# Altium footprint library Resistors THD.PcbLib: 107 footprints (part 6 of 7)
Each footprint in its own frame and in the unit in brackets; x right, y up, seen from the top. Pads: shape width x height; smd on the part's side, far side on the other; paste and mask are expansions set on the pad; w line width, h text height; cw(c..) or ccw(c..) is an arc to the next point about the centre after c.
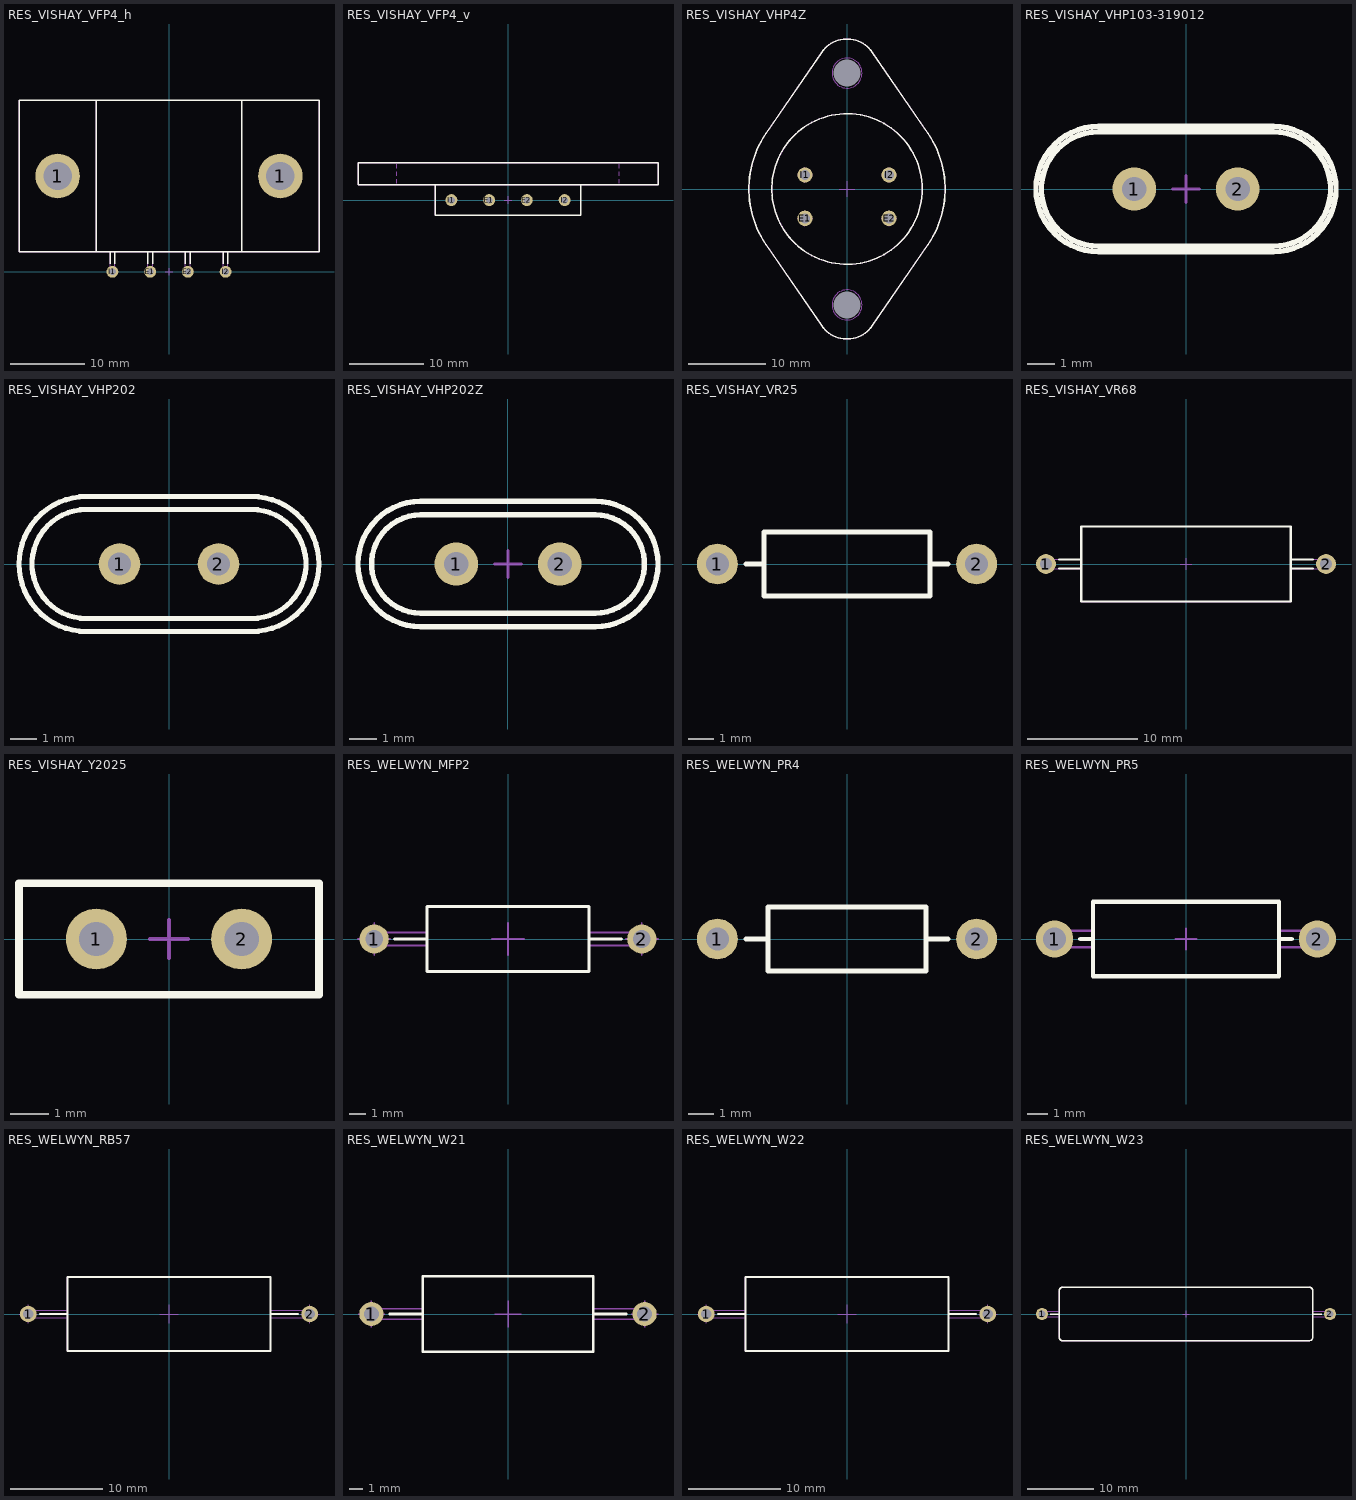
[diagram p5: the footprints below, top view; thin cyan lines are the x and y axes]

## RES_VISHAY_VFP4_h [mm] "4 Leads VFP4 VISHAY Case - Horizontal Mounting"
height 7.11
pads (6):
  round 6 hole 3.8: 1(-15,12.9) 1(15,12.9)
  round 1.6 hole 0.9: E1(-2.54,0) E2(2.54,0) I1(-7.62,0) I2(7.62,0)
Top Overlay:
  lines w0.2: -9.79,2.7 -9.79,23.1 ; -7.945,1.051 -7.945,2.7 ; -7.295,1.051 -7.295,2.7 ; -2.865,1.051 -2.865,2.7 ; -2.215,1.051 -2.215,2.7 ; 2.215,1.051 2.215,2.7 ; 2.865,1.051 2.865,2.7 ; 7.295,1.051 7.295,2.7 ; 7.945,1.051 7.945,2.7 ; 9.79,2.7 9.79,23.1 ; -20.21,2.7 -20.21,23.1 20.21,23.1 20.21,2.7 -20.21,2.7
Mechanical 8:
  lines w0.1: -15.5,12.9 -15,12.9 ; -15,12.4 -15,12.9 ; -15,13.4 -15,12.9 ; -14.5,12.9 -15,12.9 ; -8.12,0 -7.62,0 ; -7.62,-0.5 -7.62,0 ; -7.62,0.5 -7.62,0 ; -7.12,0 -7.62,0 ; -3.04,0 -2.54,0 ; -2.54,-0.5 -2.54,0 ; -2.54,0.5 -2.54,0 ; -2.04,0 -2.54,0 ; -0.5,0 0,0 ; 0,-0.5 0,0 ; 0,0.5 0,0 ; 0.5,0 0,0 ; 2.04,0 2.54,0 ; 2.54,-0.5 2.54,0 ; 2.54,0.5 2.54,0 ; 3.04,0 2.54,0 ; 7.12,0 7.62,0 ; 7.62,-0.5 7.62,0 ; 7.62,0.5 7.62,0 ; 8.12,0 7.62,0 ; 14.5,12.9 15,12.9 ; 15,12.4 15,12.9 ; 15,13.4 15,12.9 ; 15.5,12.9 15,12.9
Mechanical 14:
  lines w0.1: -9.79,2.7 -9.79,23.1 ; -7.945,2.7 -7.945,0 ccw(c-7.62,0) -7.295,0 -7.295,2.7 ; -2.865,2.7 -2.865,0 ccw(c-2.54,0) -2.215,0 -2.215,2.7 ; 2.215,2.7 2.215,0 ccw(c2.54,0) 2.865,0 2.865,2.7 ; 7.295,2.7 7.295,0 ccw(c7.62,0) 7.945,0 7.945,2.7 ; 9.79,2.7 9.79,23.1 ; -20.21,2.7 -20.21,23.1 20.21,23.1 20.21,2.7 -20.21,2.7
3D body "RES_VISHAY_VFP-4_h.stp": height 7.11, standoff -3.6, extent -20.21,-0.325 20.21,23.1

## RES_VISHAY_VFP4_v [mm] "4 Leads VFP4 VISHAY Case - Vertical Mounting"
height 25.4
pads (4):
  round 1.6 hole 0.9: E1(-2.54,0) E2(2.54,0) I1(-7.62,0) I2(7.62,0)
Top Overlay:
  lines w0.2: -9.79,2.055 -9.79,-2.055 9.79,-2.055 9.79,2.055 ; -20.21,2.055 -20.21,5.055 20.21,5.055 20.21,2.055 -20.21,2.055
Mechanical 8:
  lines w0.1: -15,2.305 -15,2.805 ; -15,3.305 -15,3.555 -15,3.805 ; -15,4.305 -15,4.805 ; -8.12,0 -7.62,0 ; -7.62,-0.5 -7.62,0 ; -7.62,0.5 -7.62,0 ; -7.12,0 -7.62,0 ; -3.04,0 -2.54,0 ; -2.54,-0.5 -2.54,0 ; -2.54,0.5 -2.54,0 ; -2.04,0 -2.54,0 ; -0.5,0 0,0 ; 0,-0.5 0,0 ; 0,0.5 0,0 ; 0.5,0 0,0 ; 2.04,0 2.54,0 ; 2.54,-0.5 2.54,0 ; 2.54,0.5 2.54,0 ; 3.04,0 2.54,0 ; 7.12,0 7.62,0 ; 7.62,-0.5 7.62,0 ; 7.62,0.5 7.62,0 ; 8.12,0 7.62,0 ; 15,2.305 15,2.805 ; 15,3.305 15,3.555 15,3.805 ; 15,4.305 15,4.805
Mechanical 14:
  lines w0.1: -9.79,2.055 -9.79,-2.055 9.79,-2.055 9.79,2.055 ; -20.21,2.055 -20.21,5.055 20.21,5.055 20.21,2.055 -20.21,2.055
3D body "RES_VISHAY_VFP-4_v.stp": height 25.4, standoff -3, extent -20.21,-2.055 20.21,5.055

## RES_VISHAY_VHP4Z [mm] "TO-3, 4 Leads VISHAY Case"
height 8.64
pads (6):
  round 0.5 hole 3.5 unplated mask+1.5: 1(0,-15.065) 1(0,15.065)
  round 2 hole 1.3: E1(-5.46,-3.815) E2(5.46,-3.815) I1(-5.46,1.825) I2(5.46,1.825)
Top Overlay:
  circle w0.2: c0,0 r9.779
  lines w0.2: -10.526,-7.221 cw(c0,0) -10.526,7.221 -3.299,17.758 cw(c0,15.495) 3.299,17.758 10.526,7.221 cw(c0,0) 10.526,-7.221 3.299,-17.758 cw(c0,-15.495) -3.299,-17.758 -10.526,-7.221
Mechanical 8:
  lines w0.1: -6.46,-3.815 -5.46,-3.815 ; -6.46,1.825 -5.46,1.825 ; -5.46,-4.815 -5.46,-3.815 ; -5.46,-2.815 -5.46,-3.815 ; -5.46,0.825 -5.46,1.825 ; -5.46,2.825 -5.46,1.825 ; -4.46,-3.815 -5.46,-3.815 ; -4.46,1.825 -5.46,1.825 ; -1,-15.065 0,-15.065 ; -1,0 0,0 ; -1,15.065 0,15.065 ; 0,-16.065 0,-15.065 ; 0,-14.065 0,-15.065 ; 0,-1 0,0 ; 0,1 0,0 ; 0,14.065 0,15.065 ; 0,16.065 0,15.065 ; 1,-15.065 0,-15.065 ; 1,0 0,0 ; 1,15.065 0,15.065 ; 4.46,-3.815 5.46,-3.815 ; 4.46,1.825 5.46,1.825 ; 5.46,-4.815 5.46,-3.815 ; 5.46,-2.815 5.46,-3.815 ; 5.46,0.825 5.46,1.825 ; 5.46,2.825 5.46,1.825 ; 6.46,-3.815 5.46,-3.815 ; 6.46,1.825 5.46,1.825
Mechanical 14:
  circle w0.1: c-5.46,1.825 r0.5
  circle w0.1: c-5.46,-3.815 r0.5
  circle w0.1: c5.46,-3.815 r0.5
  circle w0.1: c5.46,1.825 r0.5
  circle w0.1: c0,-15.065 r1.95
  circle w0.1: c0,15.065 r1.95
  circle w0.1: c0,0 r9.779
  lines w0.1: -10.526,-7.221 cw(c0,0) -10.526,7.221 -3.299,17.758 cw(c0,15.495) 3.299,17.758 10.526,7.221 cw(c0,0) 10.526,-7.221 3.299,-17.758 cw(c0,-15.495) -3.299,-17.758 -10.526,-7.221
3D body "RES_VISHAY_VHP4Z.stp": height 8.64, standoff -11.43, extent -12.765,-19.495 12.765,19.495

## RES_VISHAY_VHP103-319012 [mm] "Resistor, Radial, Pad spacing 5.08mm - Body 4.62mm X 11.05mm X 10.92mm H"
height 13.97
pads (2):
  round 1.6 hole 0.9: 1(-1.905,0) 2(1.905,0)
Top Overlay:
  lines w0.2: -3.215,-2.31 cw(c-3.215,0) -3.215,2.31 3.215,2.31 cw(c3.215,0) 3.215,-2.31 -3.215,-2.31 ; -3.215,-2.11 cw(c-3.215,0) -3.215,2.11 3.215,2.11 cw(c3.215,0) 3.215,-2.11 -3.215,-2.11
Mechanical 8:
  lines w0.1: -2.395,0 -1.895,0 ; -1.895,-0.5 -1.895,0 ; -1.895,0.5 -1.895,0 ; -1.395,0 -1.895,0 ; -0.5,0 0,0 ; 0,-0.5 0,0 ; 0,0.5 0,0 ; 0.5,0 0,0 ; 1.395,0 1.895,0 ; 1.895,-0.5 1.895,0 ; 1.895,0.5 1.895,0 ; 2.395,0 1.895,0
Mechanical 14:
  lines w0.1: -3.215,-2.31 cw(c-3.215,0) -3.215,2.31 3.215,2.31 cw(c3.215,0) 3.215,-2.31 -3.215,-2.31 ; -3.215,-2.11 cw(c-3.215,0) -3.215,2.11 3.215,2.11 cw(c3.215,0) 3.215,-2.11 -3.215,-2.11
3D body "RES_VISHAY_VHP103-319012.stp": height 13.97, standoff -3.16, extent -5.525,-2.31 5.525,2.31

## RES_VISHAY_VHP202 [mm] "Resistor, Radial, Pad spacing 3.81mm - Body 5.21mm X 11.56mm X 13.84mm H"
height 11.43
pads (2):
  round 1.6 hole 0.9: 1(-1.905,0) 2(1.905,0)
Top Overlay:
  lines w0.2: -3.175,-2.6 cw(c-3.175,0) -3.175,2.6 3.175,2.6 cw(c3.175,0) 3.175,-2.6 -3.175,-2.6 ; -3.175,-2.1 cw(c-3.175,0) -3.175,2.1 3.175,2.1 cw(c3.175,0) 3.175,-2.1 -3.175,-2.1
Mechanical 14:
  circle w0.1: c-1.905,0 r0.6
  circle w0.1: c1.905,0 r0.6
  lines w0.1: -3.175,-2.6 cw(c-3.175,0) -3.175,2.6 3.175,2.6 cw(c3.175,0) 3.175,-2.6 -3.175,-2.6 ; -3.175,-2.1 cw(c-3.175,0) -3.175,2.1 3.175,2.1 cw(c3.175,0) 3.175,-2.1 -3.175,-2.1
3D body "RES_VISHAY_VHP202.stp": height 13.84, standoff -3.6, extent -5.78,-2.6 5.77,2.6

## RES_VISHAY_VHP202Z [mm] "Resistor, Radial, Pad spacing 3.81mm - Body 4.11mm X 10.54mm X 13.3mm H"
height 13.84
pads (2):
  round 1.6 hole 0.9: 1(-1.905,0) 2(1.905,0)
Top Overlay:
  lines w0.2: -3.215,-2.31 cw(c-3.215,0) -3.215,2.31 3.215,2.31 cw(c3.215,0) 3.215,-2.31 -3.215,-2.31 ; -3.215,-1.81 cw(c-3.215,0) -3.215,1.81 3.215,1.81 cw(c3.215,0) 3.215,-1.81 -3.215,-1.81
Mechanical 8:
  lines w0.1: -2.405,0 -1.905,0 ; -1.905,-0.5 -1.905,0 ; -1.905,0.5 -1.905,0 ; -1.405,0 -1.905,0 ; -0.5,0 0,0 ; 0,-0.5 0,0 ; 0,0.5 0,0 ; 0.5,0 0,0 ; 1.405,0 1.905,0 ; 1.905,-0.5 1.905,0 ; 1.905,0.5 1.905,0 ; 2.405,0 1.905,0
Mechanical 14:
  lines w0.1: -3.215,-2.31 cw(c-3.215,0) -3.215,2.31 3.215,2.31 cw(c3.215,0) 3.215,-2.31 -3.215,-2.31 ; -3.215,-1.81 cw(c-3.215,0) -3.215,1.81 3.215,1.81 cw(c3.215,0) 3.215,-1.81 -3.215,-1.81
3D body "RES_VISHAY_VHP202Z.stp": height 13.84, standoff -3.6, extent -5.525,-2.31 5.525,2.31

## RES_VISHAY_VR25 [mm] "Resistor, Axial, Pad spacing 10.16 mm - Body Lengh 6.5mm X Body Diameter 2.5mm"
height 2.5
pads (2):
  round 1.6 hole 0.9: 1(-5.08,0) 2(5.08,0)
Top Overlay:
  lines w0.2: -3.95,0 -3.25,0 ; 3.25,0 3.95,0 ; -3.25,-1.25 3.25,-1.25 3.25,1.25 -3.25,1.25 -3.25,-1.25
Mechanical 14:
  lines w0.1: -3.95,0 -3.25,0 ; 3.25,0 3.95,0 ; -3.25,-1.25 -3.25,1.25 3.25,1.25 3.25,-1.25 -3.25,-1.25
3D body "RES_VISHAY_VR25.stp": height 2.51, standoff -3.2, extent -5.38,-1.27 5.38,1.26

## RES_VISHAY_VR68 [mm] "Resistor, Axial, Pad spacing 25.4mm - Body Lengh 18mm X Body Diameter 6.8mm"
height 6.8
pads (2):
  round 1.8 hole 1.1: 1(-12.7,0) 2(12.7,0)
Top Overlay:
  lines w0.2: -11.522,-0.417 -9.5,-0.417 ; -11.522,0.417 -9.5,0.417 ; 9.5,-0.417 11.522,-0.417 ; 9.5,0.417 11.522,0.417 ; -9.5,-3.4 9.5,-3.4 9.5,3.4 -9.5,3.4 -9.5,-3.4
Mechanical 8:
  lines w0.05: -13.2,0 -12.7,0 ; -12.7,-0.5 -12.7,0 ; -12.7,0.5 -12.7,0 ; -12.2,0 -12.7,0 ; -0.5,0 0,0 ; 0,-0.5 0,0 ; 0,0.5 0,0 ; 0.5,0 0,0 ; 12.2,0 12.7,0 ; 12.7,-0.5 12.7,0 ; 12.7,0.5 12.7,0 ; 13.2,0 12.7,0
Mechanical 14:
  lines w0.1: -9.5,-0.417 -12.7,-0.417 cw(c-12.7,0) -12.7,0.417 -9.5,0.417 ; 9.5,-0.417 12.7,-0.417 ccw(c12.7,0) 12.7,0.417 9.5,0.417 ; -9.5,-3.4 9.5,-3.4 9.5,3.4 -9.5,3.4 -9.5,-3.4
3D body "RES_VISHAY_VR68.stp": height 6.8, standoff -3.6, extent -13.115,-3.4 13.115,3.4

## RES_VISHAY_Y2025 [mm] "Resistor, Radial Rectangular, Leads  Spacing 3.81mm - Body 7.62mm X mm X 2.67mm"
height 8.53
pads (2):
  round 1.6 hole 0.9: 1(-1.905,0) 2(1.905,0)
Top Overlay:
  lines w0.2: -3.935,-1.46 3.935,-1.46 3.935,1.46 -3.935,1.46 -3.935,-1.46
Mechanical 8:
  lines w0.1: -2.405,0 -1.905,0 ; -1.905,-0.5 -1.905,0 ; -1.905,0.5 -1.905,0 ; -1.405,0 -1.905,0 ; -0.5,0 0,0 ; 0,-0.5 0,0 ; 0,0.5 0,0 ; 0.5,0 0,0 ; 1.405,0 1.905,0 ; 1.905,-0.5 1.905,0 ; 1.905,0.5 1.905,0 ; 2.405,0 1.905,0
Mechanical 14:
  lines w0.1: -3.935,-1.46 3.935,-1.46 3.935,1.46 -3.935,1.46 -3.935,-1.46
3D body "RES_VISHAY_Y2025.stp": height 8.53, standoff -3.6, extent -3.935,-1.46 3.935,1.46

## RES_WELWYN_MFP2 [mm] "Resistor, Axial, Pad spacing 16.51 mm - Body Lengh 10mm X Body Diameter 4mm"
height 4
pads (2):
  round 1.8 hole 1.1: 1(-8.255,0) 2(8.255,0)
Top Overlay:
  lines w0.2: -7,0 -5,0 ; 5,0 7,0 ; -5,-2 5,-2 5,2 -5,2 -5,-2
Mechanical 8:
  lines w0.1: -9.255,0 -8.255,0 ; -8.255,-1 -8.255,0 ; -8.255,1 -8.255,0 ; -7.255,0 -8.255,0 ; -1,0 0,0 ; 0,-1 0,0 ; 0,1 0,0 ; 1,0 0,0 ; 7.255,0 8.255,0 ; 8.255,-1 8.255,0 ; 8.255,1 8.255,0 ; 9.255,0 8.255,0
Mechanical 14:
  lines w0.1: -5,-0.4 -8.255,-0.4 cw(c-8.255,0) -8.255,0.4 -5,0.4 ; 5,-0.4 8.255,-0.4 ccw(c8.255,0) 8.255,0.4 5,0.4 ; -5,-2 5,-2 5,2 -5,2 -5,-2
3D body "RES_WELWYN_MFP2.stp": height 4, standoff -3.1, extent -8.645,-1.95 8.665,2.05

## RES_WELWYN_PR4 [mm] "Resistor, Axial, Pad spacing 10.16 mm - Body Lengh 6.2mm X Body Diameter 2.5mm"
height 2.5
pads (2):
  round 1.6 hole 0.9: 1(-5.08,0) 2(5.08,0)
Top Overlay:
  lines w0.2: -3.95,0 -3.1,0 ; 3.1,0 3.95,0 ; -3.1,-1.25 -3.1,1.25 3.1,1.25 3.1,-1.25 -3.1,-1.25
Mechanical 14:
  lines w0.1: -3.95,0 -3.1,0 ; 3.1,0 3.95,0 ; -3.1,-1.25 3.1,-1.25 3.1,1.25 -3.1,1.25 -3.1,-1.25
3D body "RES_WELWYN_PR4.stp": height 2.51, standoff -3.2, extent -5.379,-1.27 5.38,1.26

## RES_WELWYN_PR5 [mm] "Resistor, Axial, Pad spacing 12.7mm - Body Lengh 9mm X Body Diameter 3.6mm"
height 3.6
pads (2):
  round 1.8 hole 1.1: 1(-6.35,0) 2(6.35,0)
Top Overlay:
  lines w0.2: -5.113,0 -4.5,0 ; 4.5,0 5.113,0 ; -4.5,-1.8 -4.5,1.8 4.5,1.8 4.5,-1.8 -4.5,-1.8
Mechanical 8:
  lines w0.1: -6.85,0 -6.35,0 ; -6.35,-0.5 -6.35,0 ; -6.35,0.5 -6.35,0 ; -5.85,0 -6.35,0 ; -0.5,0 0,0 ; 0,-0.5 0,0 ; 0,0.5 0,0 ; 0.5,0 0,0 ; 5.85,0 6.35,0 ; 6.35,-0.5 6.35,0 ; 6.35,0.5 6.35,0 ; 6.85,0 6.35,0
Mechanical 14:
  lines w0.1: -4.5,-0.4 -6.35,-0.4 cw(c-6.35,0) -6.35,0.4 -4.5,0.4 ; 4.5,-0.4 6.35,-0.4 ccw(c6.35,0) 6.35,0.4 4.5,0.4 ; -4.5,-1.8 -4.5,1.8 4.5,1.8 4.5,-1.8 -4.5,-1.8
3D body "RES_WELWYN_PR5.stp": height 3.6, standoff -3.6, extent -6.75,-1.8 6.75,1.8

## RES_WELWYN_RB57 [mm] "Resistor, Axial, Leads spacing 30.48mm, Lead Dia. 0.8, Body Lengh 22mm, Diameter 8mm"
height 8
pads (2):
  round 1.8 hole 1.1: 1(-15.24,0) 2(15.24,0)
Top Overlay:
  lines w0.2: -14,0 -11,0 ; 11,0 14,0 ; -11,-4 11,-4 11,4 -11,4 -11,-4
Mechanical 8:
  lines w0.1: -16.24,0 -15.24,0 ; -15.24,-1 -15.24,0 ; -15.24,1 -15.24,0 ; -14.24,0 -15.24,0 ; -1,0 0,0 ; 0,-1 0,0 ; 0,1 0,0 ; 1,0 0,0 ; 14.24,0 15.24,0 ; 15.24,-1 15.24,0 ; 15.24,1 15.24,0 ; 16.24,0 15.24,0
Mechanical 14:
  lines w0.1: -11,-0.4 -15.24,-0.4 cw(c-15.24,0) -15.24,0.4 -11,0.4 ; 11,-0.4 15.24,-0.4 ccw(c15.24,0) 15.24,0.4 11,0.4 ; -11,-4 -11,4 11,4 11,-4 -11,-4
3D body "RESAD3048W80L2200D800A.stp": height 8, standoff -3.8, extent -15.64,-4 15.64,4

## RES_WELWYN_W21 [mm] "Resistor, Axial, Leads spacing 20.32mm, Lead Dia. 0.8, Body Lengh 12.7mm, Diameter 5.6mm"
height 5.6
pads (2):
  round 1.8 hole 1.1: 1(-10.16,0) 2(10.16,0)
Top Overlay:
  lines w0.2: -8.8,0 -6.35,0 ; 6.35,0 8.8,0 ; -6.35,-2.8 6.35,-2.8 6.35,2.8 -6.35,2.8 -6.35,-2.8
Mechanical 8:
  lines w0.1: -11.16,0 -10.16,0 ; -10.16,-1 -10.16,0 ; -10.16,1 -10.16,0 ; -9.16,0 -10.16,0 ; -1,0 0,0 ; 0,-1 0,0 ; 0,1 0,0 ; 1,0 0,0 ; 9.16,0 10.16,0 ; 10.16,-1 10.16,0 ; 10.16,1 10.16,0 ; 11.16,0 10.16,0
Mechanical 14:
  lines w0.1: -6.35,-0.4 -10.16,-0.4 cw(c-10.16,0) -10.16,0.4 -6.35,0.4 ; 6.35,-0.4 10.16,-0.4 ccw(c10.16,0) 10.16,0.4 6.35,0.4 ; -6.35,-2.8 6.35,-2.8 6.35,2.8 -6.35,2.8 -6.35,-2.8
3D body "RES_WELWYN_W21.stp": height 5.6, standoff -3.8, extent -10.59,-2.8 10.59,2.8

## RES_WELWYN_W22 [mm] "Resistor, Axial, Leads spacing 30.48mm, Lead Dia. 0.8, Body Lengh 22mm, Diameter 8mm"
height 8
pads (2):
  round 1.8 hole 1.1: 1(-15.24,0) 2(15.24,0)
Top Overlay:
  lines w0.2: -14,0 -11,0 ; 11,0 14,0 ; -11,-4 11,-4 11,4 -11,4 -11,-4
Mechanical 8:
  lines w0.1: -16.24,0 -15.24,0 ; -15.24,-1 -15.24,0 ; -15.24,1 -15.24,0 ; -14.24,0 -15.24,0 ; -1,0 0,0 ; 0,-1 0,0 ; 0,1 0,0 ; 1,0 0,0 ; 14.24,0 15.24,0 ; 15.24,-1 15.24,0 ; 15.24,1 15.24,0 ; 16.24,0 15.24,0
Mechanical 14:
  lines w0.1: -11,-0.4 -15.24,-0.4 cw(c-15.24,0) -15.24,0.4 -11,0.4 ; 11,-0.4 15.24,-0.4 ccw(c15.24,0) 15.24,0.4 11,0.4 ; -11,-4 -11,4 11,4 11,-4 -11,-4
3D body "RESAD3048W80L2200D800A.stp": height 8, standoff -3.8, extent -15.64,-4 15.64,4

## RES_WELWYN_W23 [mm] "Resistor, Axial, Pad spacing 43.18mm - Body Lengh 38mm X Body Diameter 8mm"
height 8
pads (2):
  round 1.8 hole 1.1: 1(-21.59,0) 2(21.59,0)
Top Overlay:
  lines w0.2: -20.353,0 -19,0 ; 19,0 20.353,0 ; -19,-3.5 ccw(c-18.5,-3.5) -18.5,-4 18.5,-4 ccw(c18.5,-3.5) 19,-3.5 19,3.5 ccw(c18.5,3.5) 18.5,4 -18.5,4 ccw(c-18.5,3.5) -19,3.5 -19,-3.5
Mechanical 8:
  lines w0.1: -21.59,0 -21.59,0.5 -21.59,0 ; -21.59,0 -21.09,0 -21.59,0 ; -21.59,0 -21.59,-0.5 -21.59,0 ; -21.59,0 -22.09,0 -21.59,0 ; 0,0 0,0.5 0,0 ; 0,0 0.5,0 0,0 ; 0,0 0,-0.5 0,0 ; 0,0 -0.5,0 0,0 ; 21.59,0 21.59,0.5 21.59,0 ; 21.59,0 22.09,0 21.59,0 ; 21.59,0 21.59,-0.5 21.59,0 ; 21.59,0 21.09,0 21.59,0
Mechanical 14:
  lines w0.1: -19,-0.4 -21.59,-0.4 cw(c-21.59,0) -21.59,0.4 -19,0.4 ; 19,-0.4 21.59,-0.4 ccw(c21.59,0) 21.59,0.4 19,0.4 ; -19,-3.5 ccw(c-18.5,-3.5) -18.5,-4 18.5,-4 ccw(c18.5,-3.5) 19,-3.5 19,3.5 ccw(c18.5,3.5) 18.5,4 -18.5,4 ccw(c-18.5,3.5) -19,3.5 -19,-3.5
3D body "RES_WELWYN_W23.stp": height 8, standoff -3.6, extent -21.99,-4 21.99,4